# Altium schematic symbol library CONN(1.27mm, 2x3, 6-POS, TH).SchLib: 1 symbol
Pins are listed as number, name and electrical type; pins without a type are passive.

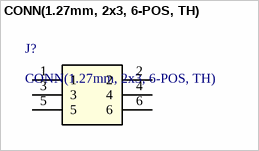
[diagram p0: symbol CONN(1.27mm, 2x3, 6-POS, TH)]

## CONN(1.27mm, 2x3, 6-POS, TH)
designator J?
Manufacturer: Amphenol ICC; Manufacturer_PN: 20021511-00006T4LF; Datasheet: https://cdn.amphenol-cs.com/media/wysiwyg/files/documentation/datasheet/boardwiretoboard/bwb_minitek127_btb.pdf; Digikey_Link: https://www.digikey.it/en/products/detail/amphenol-icc-fci/20021511-00006T4LF/4244981
footprint CONN6_20021511-00006T4LF_AMP
pins: 1, 2, 3, 4, 5, 6